# EAGLE library part PESD*L5U? (library ic-NXP)
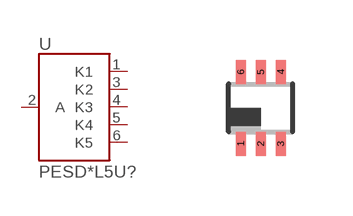
[diagram p0: symbol with the pads of SOT666; footprint SOT666]

Designator prefix U

## PESD3V3L5UV, PESD5V0L5UV  [SOT666]
1  K1
2  A
3  K2
4  K3
5  K4
6  K5

## Footprint SOT666 (pad centres in mm)
smd 0.25 x 0.6: 1 -0.5,-0.9; 2 0,-0.9; 3 0.5,-0.9; 4 0.5,0.9; 5 0,0.9; 6 -0.5,0.9